# Altium footprint library transform.PcbLib: 35 footprints (part 3 of 3)
Each footprint in its own frame and in the unit in brackets; x right, y up, seen from the top. Pads: shape width x height; smd on the part's side, far side on the other; paste and mask are expansions set on the pad; w line width, h text height; cw(c..) or ccw(c..) is an arc to the next point about the centre after c.
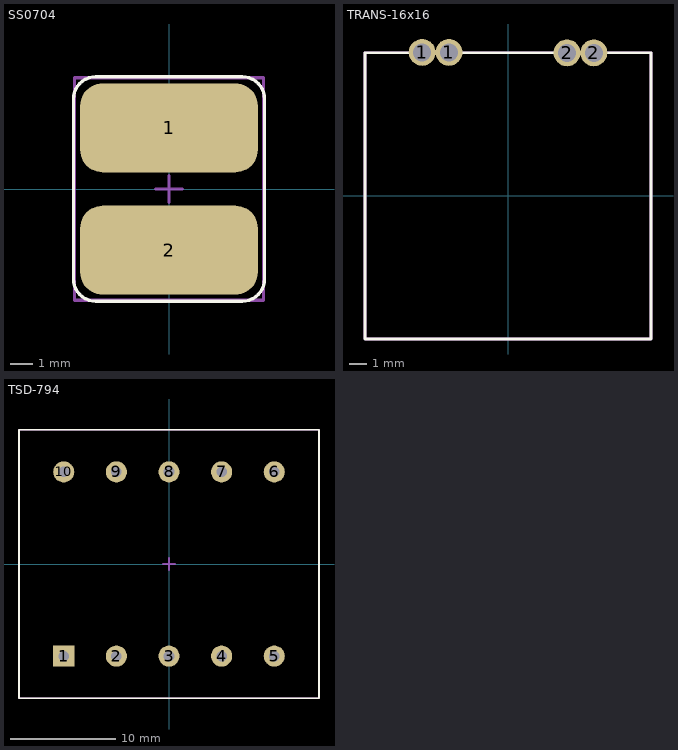
[diagram p2: the footprints below, top view; thin cyan lines are the x and y axes]

## SS0704 [mm]
pads (2):
  rrect50% 8x4 smd: 1(0,2.75) 2(0,-2.75)
Top Overlay:
  lines w0.15: -4.3,-4.05 ccw(c-3.3,-4.05) -3.3,-5.05 3.3,-5.05 ccw(c3.3,-4.05) 4.3,-4.05 4.3,4.05 ccw(c3.3,4.05) 3.3,5.05 -3.3,5.05 ccw(c-3.3,4.05) -4.3,4.05 -4.3,-4.05
Mechanical 15:
  lines w0.15: -0.6,0 0,0 ; 0,-0.6 0,0 ; 0,0.6 0,0 ; 0.6,0 0,0 ; -4.25,-5 -4.25,5 4.25,5 4.25,-5 -4.25,-5
3D body "SS0704.STEP": height 4, standoff 0, extent -3.775,-3.7 3.725,3.8

## TRANS-16x16 [mm]
pads (4):
  round 1.5 hole 1: 1(-4.8,8.025) 1(-3.3,8.025) 2(3.3,8) 2(4.8,8)
Top Overlay:
  lines w0.15: -8,-8 8,-8 8,8 -8,8 -8,-8
Mechanical 29:
  lines w0.15: -8,-8 8,-8 8,8 -8,8 -8,-8
3D body "трансфлюктор16х9х7.STEP": height 9.5, standoff 0.5, extent -8,-0.5 8,6.5
3D body "трансфлюктор16х9х7.STEP": height 9.5, standoff 0.5, extent -8,-7.6 8,-0.6
3D body: height 0.5, standoff 0, extent -5.999,-6.999 5.999,5.999

## TSD-794 [mm]
height 25
pads (10):
  rect 2x2 hole 1: 1(-10,-8.75)
  round 2 hole 1: 2(-5,-8.75) 3(0,-8.75) 4(5,-8.75) 5(10,-8.75) 6(10,8.75) 7(5,8.75) 8(0,8.75) 9(-5,8.75) 10(-10,8.75)
Top Overlay:
  lines w0.15: -14.25,-12.75 14.25,-12.75 14.25,12.75 -14.25,12.75 -14.25,-12.75
Mechanical 15:
  lines w0.15: -0.6,0 0,0 ; 0,-0.6 0,0 ; 0,0.6 0,0 ; 0.6,0 0,0 ; -14.25,-12.75 -14.25,12.75 14.25,12.75 14.25,-12.75 -14.25,-12.75
3D body "B66208W.step": height 26.2, standoff -3.25, extent -13.75,-8.652 13.75,8.652